# Altium footprint library SULLINS_PPTC061LFBN-RC.PcbLib: 1 footprints
Each footprint in its own frame and in the unit in brackets; x right, y up, seen from the top. Pads: shape width x height; smd on the part's side, far side on the other; paste and mask are expansions set on the pad; w line width, h text height; cw(c..) or ccw(c..) is an arc to the next point about the centre after c.
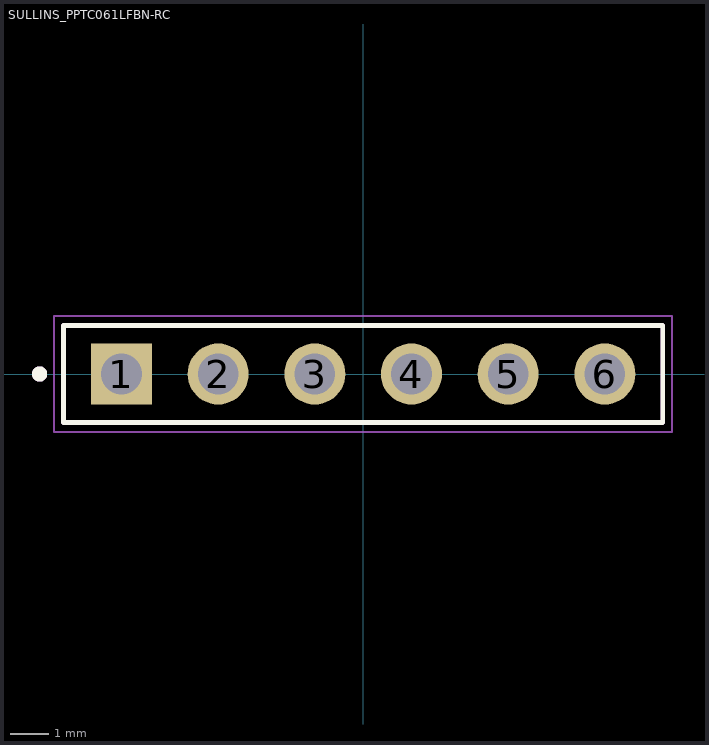
[diagram p0: the footprint, top view; thin cyan lines are the x and y axes]

## SULLINS_PPTC061LFBN-RC [mm]
height 8.5
pads (6):
  rect 1.605x1.605 / inner round 1.605 / far side rect 1.605x1.605 hole 1.07: 1(-6.35,0)
  round 1.605 hole 1.07: 2(-3.81,0) 3(-1.27,0) 4(1.27,0) 5(3.81,0) 6(6.35,0)
Top Overlay:
  circle w0.2: c-8.5,0 r0.1
  lines w0.127: -7.87,-1.27 7.87,-1.27 7.87,1.27 -7.87,1.27 -7.87,-1.27
Assembly Top:
  circle w0.2: c-8.5,0 r0.1
  lines w0.127: -7.87,-1.27 7.87,-1.27 7.87,1.27 -7.87,1.27 -7.87,-1.27
Courtyard Top:
  lines w0.05: -8.12,-1.52 8.12,-1.52 8.12,1.52 -8.12,1.52 -8.12,-1.52
3D body "step_temp.STEP": height 8.51, standoff -3.2, extent -7.874,-1.27 7.874,1.27